# Altium integrated library BH600.IntLib: 1 symbol
Pins are listed as number, name and electrical type; pins without a type are passive.

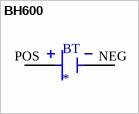
[diagram p0: symbol BH600]

## BH600
designator BT
BATTERY HOLDER COIN 16MM PC PIN; MP: BH600; MF: MPD; SnapEDA_Link: https://www.snapeda.com/parts/BH600/Memory%20Protection%20Devices/view-part/4219614/?ref=snap; Availability: Unavailable; Value: *; Price: None; Package: Battery Holder MPD
footprint BAT_BH600
pins: NEG, POS